# EAGLE library part DS28E04-100 (library cvogel)
4096-Bit Addressable 1-Wire EEPROM with PIO Maxim DS28E04-100 4096-Bit Addressable 1-Wire EEPROM with PIO • 4096 bits of EEPROM Memory Partitioned into 16 Pages of 256 Bits • Seven Address Inputs for Physical Location Configuration • Two General-Purpose PIO Pins with PulseGeneration Capability • Parasitic or VCC Powered • Conditional Search Based on PIO Status or PIO Activity • Switchpoint Hysteresis and Filtering to Optimize Performance in the Presence of Noise • Reads and Writes Over a Wide 2.8V to 5.25V • Voltage Range from -40°C to +85°C • 16-Pin, 150-mil SO Package
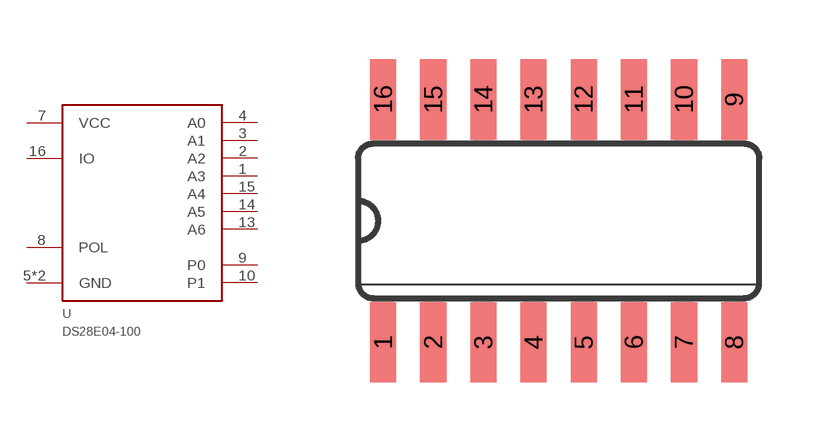
[diagram p5: symbol with the pads of SO16; footprint SO16]

Designator prefix -

## DS28E04-100  [SO16]
1  A3
2  A2
3  A1
4  A0
5  GND  pwr
7  VCC  pas
8  POL
9  P0
10  P1
12  GND  pwr
13  A6
14  A5
15  A4
16  IO

## Footprint SO16 (pad centres in mm)
Small Outline Package .150 SIOC Source: http://www.maxim-ic.com/package_drawings/21-0041B.pdf
smd 0.66 x 2.032: 1 -4.445,-3.073; 2 -3.175,-3.073; 3 -1.905,-3.073; 4 -0.635,-3.073; 5 0.635,-3.073; 6 1.905,-3.073; 7 3.175,-3.073; 8 4.445,-3.073; 9 4.445,3.073; 10 3.175,3.073; 11 1.905,3.073; 12 0.635,3.073; 13 -0.635,3.073; 14 -1.905,3.073; 15 -3.175,3.073; 16 -4.445,3.073